# Altium integrated library usefully_Library.IntLib: 62 symbols
Pins are listed as number, name and electrical type; pins without a type are passive.

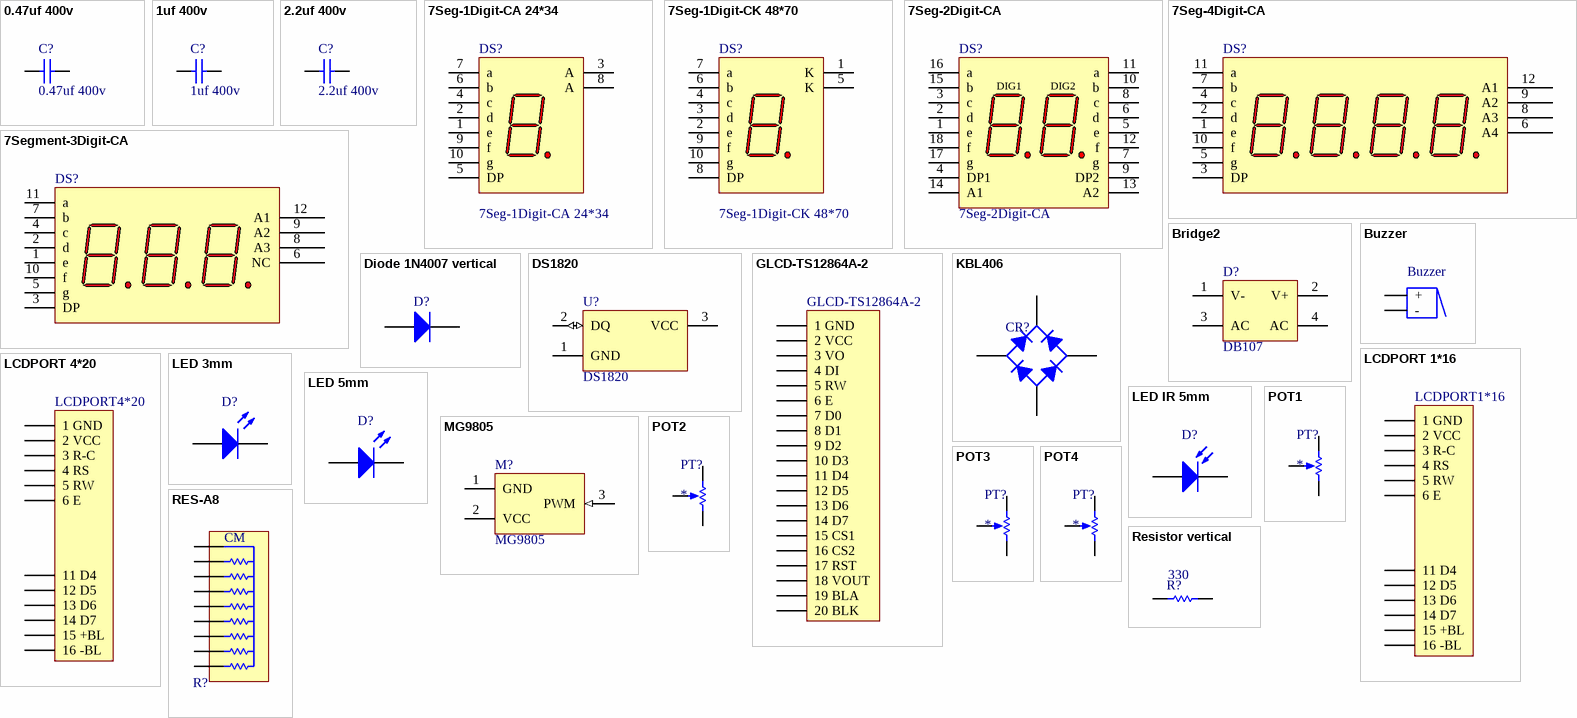
[diagram p0: symbols 0.47uf 400v to Resistor vertical]

## 0.47uf 400v
designator C?
Capacitor 17*6mm; Designer: Seyed Mohsen Ghasemain; Value: 0.47uF; ComponentLinkURL: www.picpars.com
footprint 0.47uf 400v (17*6mm)
pins: 1, 2

## 1uf 400v
designator C?
Capacitor 24*9mm; Designer: Seyed Mohsen Ghasemain; Value: 1uF; ComponentLinkURL: www.picpars.com
footprint 1uf 400v (24*9mm)
pins: 1, 2

## 2.2uf 400v
designator C?
Capacitor 28*11mm; Designer: Seyed Mohsen Ghasemain; Value: 2.2uF; ComponentLinkURL: www.picpars.com
footprint 2.2uf 400v (28*6mm)
pins: 1, 2

## 7Seg-1Digit-CA 24*34
designator DS?
24*34 7-Segment CA; Publisher: Seyed Mohsen Ghasemian; ComponentLink1Description: picpars.com; ComponentLink1URL: http://www.picpars.com
footprint 7segCA 24*34 (7seg-CA; 10 Leads; 24*34mm)
pins: 1 e "Digit 1 e Cathode", 2 d "Digit 1 d Cathode", 3 A "Digit 1 Common Anode", 4 c "Digit 1 c Cathode", 5 DP "Digit 1 DP Cathode", 6 b "Digit 1 b Cathode", 7 a "Digit 1 a Cathode", 8 A "Digit 1 Common Anode", 9 f "Digit 1 f Cathode", 10 g "Digit 1 g Cathode"

## 7Seg-1Digit-CK 48*70
designator DS?
48*70 7-Segment CK; Publisher: Seyed Mohsen Ghasemian; ComponentLink1Description: picpars.com; ComponentLink1URL: http://www.picpars.com
footprint 7segCK 48*70 (7seg-CK; 10 Leads; 48*70mm)
pins: 1 K "Digit 1 Common Cathode", 2 e "Digit 1 e Cathode", 3 d "Digit 1 d Cathode", 4 c "Digit 1 c Cathode", 5 K "Digit 1 Common Cathode", 6 b "Digit 1 b Cathode", 7 a "Digit 1 a Cathode", 8 DP "Digit 1 DP Cathode", 9 f "Digit 1 f Cathode", 10 g "Digit 1 g Cathode"

## 7Seg-2Digit-CA
designator DS?
7-Segment Display: CA; Publisher: Seyed Mohsen Ghasemian; ComponentLink1Description: picpars.com; ComponentLink1URL: http://www.picpars.com
footprint 7segCA-2 (7seg-CA; 18 Leads)
pins: 1 e "Digit 1 e Cathode", 2 d "Digit 1 d Cathode", 3 c "Digit 1 c Cathode", 4 DP1 "Digit 1 DP Cathode", 5 e "Digit 2 e Cathode", 6 d "Digit 2 d Cathode", 7 g "Digit 2 g Cathode", 8 c "Digit 2 c Cathode", 9 DP2 "Digit 2 DP Cathode", 10 b "Digit 2 b Cathode", 11 a "Digit 2 a Cathode", 12 f "Digit 2 f Cathode", 13 A2 "Digit 2  Common Anode", 14 A1 "Digit 1 Common Anode", 15 b "Digit 1 b Cathode", 16 a "Digit 1 a Cathode", 17 g "Digit 1 g Cathode", 18 f "Digit 1 f Cathode"
text: DIG1; DIG2

## 7Seg-4Digit-CA
designator DS?, comment 7Segment-4Digit-CA  (value not drawn)
7-Segment Display: CA; Colour: Read; Designer: Seyed Mohsen Ghasemain; Published: 07/31/2012; Publisher: www.picpars.com; ComponentLink1URL: http://www.picpars.com/
footprint 7segCA (7seg-CA; 12 Leads)
pins: 1 e "Cathode", 2 d "Cathode", 3 DP "Cathode", 4 c "Cathode", 5 g "Cathode", 6 A4, 7 b "Cathode", 8 A3, 9 A2, 10 f "Cathode", 11 a "Cathode", 12 A1

## 7Segment-3Digit-CA
designator DS?  (value not drawn)
Colour: Read; Designer: Seyed Mohsen Ghasemain; Published: 01/04/2013; Publisher: www.picpars.com; ComponentLink1URL: http://www.picpars.com/
footprint 7segCA-3 (7seg-CA; 12 Leads)
pins: 1 e "Cathode", 2 d "Cathode", 3 DP "Cathode", 4 c "Cathode", 5 g "Cathode", 6 NC, 7 b "Cathode", 8 A3, 9 A2, 10 f "Cathode", 11 a "Cathode", 12 A1

## Bridge2
designator D?, comment DB107
Diode Bridge; Designer: Seyed Mohsen ghasemian; WEB: www.picpars.com
footprint DB107
pins: 1 V-, 2 V+, 3 AC, 4 AC

## Buzzer
designator Buzzer  (value not drawn)
Designer: Seyed Mohsen Ghasemain; ComponentLinkURL: www.picpars.com
footprint BUZZER
pins: 1 +, 2 -

## Diode 1N4007 vertical
designator D?  (value not drawn)
1 Amp General Purpose Rectifier; Publisher: seyed mohsen ghasemian
footprint D 50mm (50mm Pin Spacing)
pins: 1 A, 2 K

## DS1820
designator U?
1-Wire Digital Thermometer; ComponentAvailability: Obsolete; Published: 13-Oct-2000; LatestRevisionDate: 17-Jul-2002; LatestRevisionNote: Re-released for DXP Platform.; DatasheetVersion: 5-Mar-1998; PackageVersion: 1999; PackageReference: PR35; Publisher: Altium Limited; PackageDescription: TO, Flat Index; 3 In-Line, Axial Leads; Body Dia. 4.6mm; Leads 0.56 x 0.51 mm (max); ComponentLink1Description: Manufacturer Link; ComponentLink1URL: http://www.maxim-ic.com/; ComponentLink2Description: Datasheet; ComponentLink2URL: http://pdfserv.maxim-ic.com/en/ds/DS1820-DS1820S.pdf; ComponentLink3Description: Discontinuation Notice; ComponentLink3URL: http://www.maxim-ic.com/qa/pdfs/non-obsolescence-letter.pdf
footprint DS1820
pins: 1 GND (power), 2 DQ (io), 3 VCC (power)

## GLCD-TS12864A-2
designator GLCD-TS12864A-2, comment GLCD  (value not drawn)
Graphic LCD 128*64px; Designer: Seyed Mohsen Ghasemain; ComponentLinkURL: www.picpars.com
footprint HDR1X20 (Connector; Header; 20 Position)
pins: 1 1 GND, 2 2 VCC, 3 3 VO, 4 4 DI, 5 5 RW, 6 6 E, 7 7 D0, 8 8 D1, 9 9 D2, 10 10 D3, 11 11 D4, 12 12 D5, 13 13 D6, 14 14 D7, 15 15 CS1, 16 16 CS2, 17 17 RST, 18 18 VOUT, 19 19 BLA, 20 20 BLK

## KBL406
designator CR?, comment 4 Amp 600v  (value not drawn)
E-mail: picpars@gmail.com; Publisher: Seyed mohsen ghasemian; WEB: www.picpars.com
footprint KBL4 (6mm; 19mm)
pins: 1 K, 2 C, 3 C, 4 A

## LCDPORT 1*16
designator LCDPORT1*16, comment LCDPORT1*16  (value not drawn)
LCDPORT 1*16; 80mm*36mm; Designer: Seyed Mohsen Ghasemain; ComponentLinkURL: www.picpars.com
footprint HDR1X16 (Connector; Header; 16 Position)
pins: 1 1 GND, 2 2 VCC, 3 3 R-C, 4 4 RS, 5 5 RW, 6 6 E, 11 11 D4, 12 12 D5, 13 13 D6, 14 14 D7, 15 15 +BL, 16 16 -BL

## LCDPORT 4*20
designator LCDPORT4*20, comment LCDPORT4*20  (value not drawn)
LCDPORT 4*20; 98mm*60mm; Designer: Seyed Mohsen Ghasemain; ComponentLinkURL: www.picpars.com
footprint HDR4X20 (LCD; Connector; Header; 16 Position)
pins: 1 1 GND, 2 2 VCC, 3 3 R-C, 4 4 RS, 5 5 RW, 6 6 E, 11 11 D4, 12 12 D5, 13 13 D6, 14 14 D7, 15 15 +BL, 16 16 -BL

## LED 3mm
designator D?  (value not drawn)
Typical LED; Designer: Seyed Mohsen Ghasemian; Published: 02/04/2012; PackageReference: LED; Publisher: www.picpars.com; PackageDescription: LED; 2 Leads
footprint LED-3mm (LED; 2 Leads)
pins: 1 A, 2 K

## LED 5mm
designator D?  (value not drawn)
Typical LED; Designer: Seyed Mohsen Ghasemian; Published: 07/31/2012; PackageReference: LED; Publisher: www.picpars.com; PackageDescription: LED; 2 Leads
footprint LED-1 (LED; 2 Leads)
pins: 1 A, 2 K

## LED IR 5mm
designator D?  (value not drawn)
Typical LED; Designer: Seyed Mohsen Ghasemian; Published: 07/31/2012; PackageReference: LED; Publisher: www.picpars.com; PackageDescription: LED; 2 Leads
footprint LED-1 (LED; 2 Leads)
pins: 1 A, 2 K

## MG9805
designator M?
Servo motor; ComponentAvailability: Obsolete; Published: 13-Oct-2000; LatestRevisionDate: 17-Jul-2002; LatestRevisionNote: Re-released for DXP Platform.; DatasheetVersion: 5-Mar-1998; PackageVersion: 1999; PackageReference: PR35; Publisher: Altium Limited; PackageDescription: TO, Flat Index; 3 In-Line, Axial Leads; Body Dia. 4.6mm; Leads 0.56 x 0.51 mm (max); ComponentLink1Description: Manufacturer Link; ComponentLink1URL: http://www.maxim-ic.com/; ComponentLink2Description: Datasheet; ComponentLink2URL: http://pdfserv.maxim-ic.com/en/ds/DS1820-DS1820S.pdf; ComponentLink3Description: Discontinuation Notice; ComponentLink3URL: http://www.maxim-ic.com/qa/pdfs/non-obsolescence-letter.pdf
footprint MG9805 (Connector; Header; 3 Position)
pins: 1 GND (power), 2 VCC (power), 3 PWM (in)

## POT1
designator PT?
Variable Potentiometer standing; Designer: Seyed Mohsen Ghasemian; WEB: www.picpars.com
footprint POT1
pins: 1 TOP, 2 BOT, 3 TAP

## POT2
designator PT?
Variable Potentiometer standing; Designer: Seyed Mohsen Ghasemian; WEB: www.picpars.com
footprint POT2
pins: 1 TOP, 2 BOT, 3 TAP

## POT3
designator PT?
Variable Potentiometer top adjust; Designer: Seyed Mohsen Ghasemian; WEB: www.picpars.com
footprint POT3
pins: 1 TOP, 2 BOT, 3 TAP

## POT4
designator PT?
Variable Potentiometer top adjust; Designer: Seyed Mohsen Ghasemian; WEB: www.picpars.com
footprint POT4
pins: 1 TOP, 2 BOT, 3 TAP

## RES-A8
designator R?, comment Resistor Array  (value not drawn)
E-mail: picpars@gmail.com; Publisher: Seyed mohsen ghasemian; WEB: www.picpars.com
footprint Res arrya (Resistor; Array;)
pins: 1 1 CM, 2, 3, 4, 5, 6, 7, 8, 9
text: CM

## Resistor vertical
designator R?  value 330  (hidden comment: Resistor vertical)
Resistor 0.5; Publisher: Seyed mohsen ghasemian; WEB: www.picpars.com
footprint Res50 (50mm Pin Spacing)
pins: 1, 2


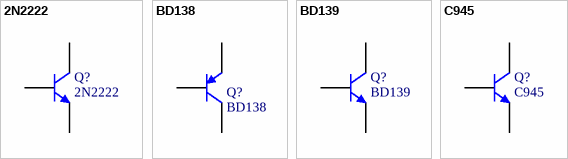
[diagram p1: symbols 2N2222 to C945]

## 2N2222
designator Q?
NPN; E-mail: picpars@gmail.com; De: Seyed Mohsen Ghasemian; web: www.picpars.com
footprint T4-TO92
pins: B, C, E

## BD138
designator Q?
PNP Transistor; E-mail: picpars@gmail.com; De: Seyed Mohsen Ghasemian; web: www.picpars.com
footprint SOT-32
pins: B, C, E

## BD139
designator Q?
NPN Transistor; E-mail: picpars@gmail.com; De: Seyed Mohsen Ghasemian; web: www.picpars.com
footprint SOT-32
pins: B, C, E

## C945
designator Q?
NPN; E-mail: picpars@gmail.com; De: Seyed Mohsen Ghasemian; web: www.picpars.com
footprint T2-TO92
pins: B, C, E


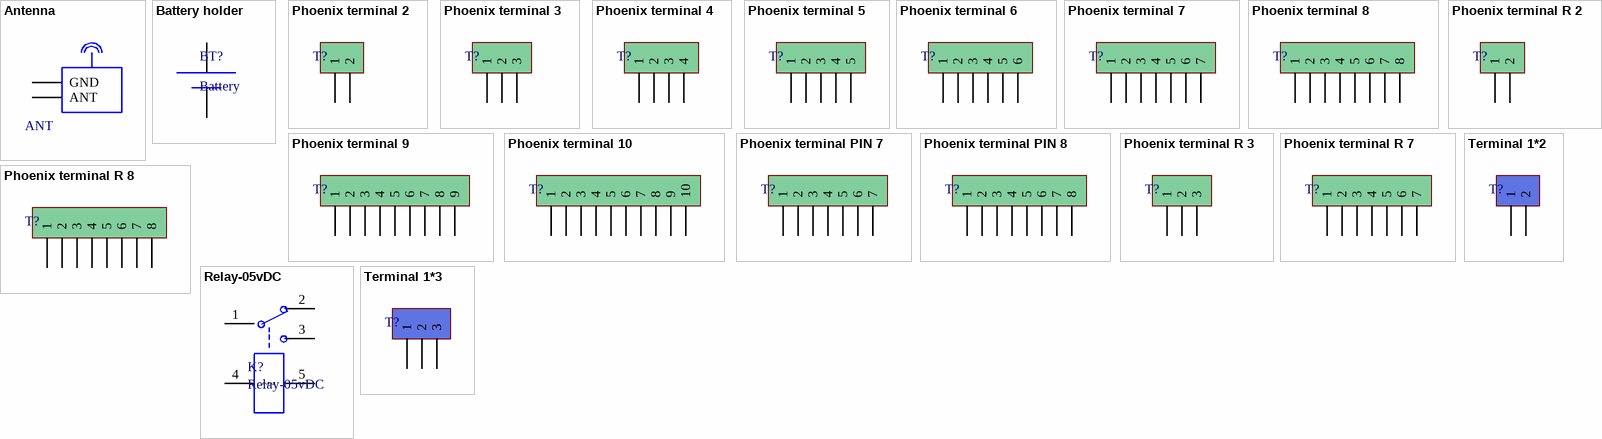
[diagram p2: symbols Antenna to Terminal 1*3]

## Antenna
designator ANT  (value not drawn)
Right RF Antenna; Designer: Seyed Mohsen Ghasemian; E-mail: picpars@gmail.com; ComponentLinkURL: www.picpars.com; Make: 11/22/2013
footprint ANT-R-RF (Antenna; Right; RF;)
pins: 1 GND, 2 ANT

## Battery holder
designator BT?, comment Battery
Battery holder CR2032; Designer: Seyed Mohsen Ghasemian; E-mail: picpars@gmail.com; ComponentLinkURL: www.picpars.com; Make: 02/12/2011
footprint CR2032 (Battery holder)
pins: 0 +, 1 -

## Phoenix terminal 2
designator T?, comment Phoenix terminal  (value not drawn)
Terminal 2 Pin; Designer: Seyed Mohsen Ghasemain; E-mail: picpars@gmail.com; ComponentLinkURL: www.picpars.com
footprint phoenix terminal 2 (2 terminals)
pins: 1, 2

## Phoenix terminal 3
designator T?, comment Phoenix terminal  (value not drawn)
Terminal 3 Pin; Designer: Seyed Mohsen Ghasemain; E-mail: picpars@gmail.com; ComponentLinkURL: www.picpars.com
footprint phoenix terminal 3 (3 terminals)
pins: 1, 2, 3

## Phoenix terminal 4
designator T?, comment Phoenix terminal  (value not drawn)
Terminal 4 Pin; Designer: Seyed Mohsen Ghasemain; E-mail: picpars@gmail.com; ComponentLinkURL: www.picpars.com
footprint phoenix terminal 4 (4 terminals)
pins: 1, 2, 3, 4

## Phoenix terminal 5
designator T?, comment Phoenix terminal  (value not drawn)
Terminal 5 Pin; Designer: Seyed Mohsen Ghasemain; E-mail: picpars@gmail.com; ComponentLinkURL: www.picpars.com
footprint phoenix terminal 5 (5 terminals)
pins: 1, 2, 3, 4, 5

## Phoenix terminal 6
designator T?, comment Phoenix terminal  (value not drawn)
Terminal 6 Pin; Designer: Seyed Mohsen Ghasemain; E-mail: picpars@gmail.com; ComponentLinkURL: www.picpars.com
footprint phoenix terminal 6 (6 terminals)
pins: 1, 2, 3, 4, 5, 6

## Phoenix terminal 7
designator T?, comment Phoenix terminal  (value not drawn)
Terminal 7 Pin; Designer: Seyed Mohsen Ghasemain; E-mail: picpars@gmail.com; ComponentLinkURL: www.picpars.com
footprint phoenix terminal 7 (7 terminals)
pins: 1, 2, 3, 4, 5, 6, 7

## Phoenix terminal 8
designator T?, comment Phoenix terminal  (value not drawn)
Terminal 8 Pin; Designer: Seyed Mohsen Ghasemain; E-mail: picpars@gmail.com; ComponentLinkURL: www.picpars.com
footprint phoenix terminal 8 (8 terminals)
pins: 1, 2, 3, 4, 5, 6, 7, 8

## Phoenix terminal 9
designator T?, comment Phoenix terminal  (value not drawn)
Terminal 9 Pin; Designer: Seyed Mohsen Ghasemain; E-mail: picpars@gmail.com; ComponentLinkURL: www.picpars.com
footprint phoenix terminal 9 (9 terminals)
pins: 1, 2, 3, 4, 5, 6, 7, 8, 9

## Phoenix terminal 10
designator T?, comment Phoenix terminal  (value not drawn)
Terminal 10 Pin; Designer: Seyed Mohsen Ghasemain; E-mail: picpars@gmail.com; ComponentLinkURL: www.picpars.com
footprint phoenix terminal 10 (10 terminals)
pins: 1, 2, 3, 4, 5, 6, 7, 8, 9, 10

## Phoenix terminal PIN 7
designator T?, comment Phoenix terminal  (value not drawn)
Terminal 7 Pin; Designer: Seyed Mohsen Ghasemain; E-mail: picpars@gmail.com; ComponentLinkURL: www.picpars.com
footprint phoenix terminal PIN 7 (7 terminals)
pins: 1, 2, 3, 4, 5, 6, 7

## Phoenix terminal PIN 8
designator T?, comment Phoenix terminal  (value not drawn)
Terminal 8 Pin; Designer: Seyed Mohsen Ghasemain; E-mail: picpars@gmail.com; ComponentLinkURL: www.picpars.com
footprint phoenix terminal PIN 8 (8 terminals)
pins: 1, 2, 3, 4, 5, 6, 7, 8

## Phoenix terminal R 2
designator T?, comment Phoenix terminal  (value not drawn)
Right Terminal 2 Pin; Designer: Seyed Mohsen Ghasemain; E-mail: picpars@gmail.com; ComponentLinkURL: www.picpars.com
footprint phoenix terminal R 2 (2 Right terminals)
pins: 1, 2

## Phoenix terminal R 3
designator T?, comment Phoenix terminal  (value not drawn)
Right Terminal 3 Pin; Designer: Seyed Mohsen Ghasemain; E-mail: picpars@gmail.com; ComponentLinkURL: www.picpars.com
footprint phoenix terminal R 3 (3 Right terminals)
pins: 1, 2, 3

## Phoenix terminal R 7
designator T?, comment Phoenix terminal  (value not drawn)
Right Terminal 7 Pin; Designer: Seyed Mohsen Ghasemain; E-mail: picpars@gmail.com; ComponentLinkURL: www.picpars.com
footprint phoenix terminal R 7 (7 Right terminals)
pins: 1, 2, 3, 4, 5, 6, 7

## Phoenix terminal R 8
designator T?, comment Phoenix terminal  (value not drawn)
Right Terminal 8 Pin; Designer: Seyed Mohsen Ghasemain; E-mail: picpars@gmail.com; ComponentLinkURL: www.picpars.com
footprint phoenix terminal R 8 (8 Right terminals)
pins: 1, 2, 3, 4, 5, 6, 7, 8

## Relay-05vDC
designator K?
Relay-05vDC-240AC 5A; Designer: Seyed Mohsen Ghasemain; ComponentLinkURL: www.picpars.com
footprint Relays
pins: 1 COM, 2 NC, 3 NO, 4 ~, 5 ~

## Terminal 1*2
designator T?, comment Terminal  (value not drawn)
Terminal 2 Pin 250VAC 16A; Designer: Seyed Mohsen Ghasemain; E-mail: picpars@gmail.com; ComponentLinkURL: www.picpars.com
footprint Terminal 1*2
pins: 1, 2

## Terminal 1*3
designator T?, comment Terminal  (value not drawn)
Terminal 3 Pin 250VAC 16A; Designer: Seyed Mohsen Ghasemain; E-mail: picpars@gmail.com; ComponentLinkURL: www.picpars.com
footprint Terminal 1*3
pins: 1, 2, 3


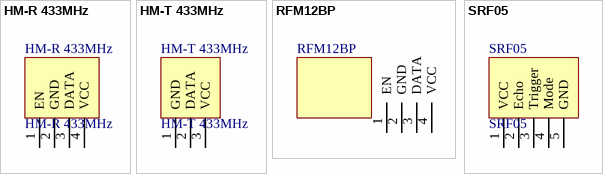
[diagram p3: symbols HM-R 433MHz to SRF05]

## HM-R 433MHz
designator HM-R 433MHz
Modules RF 433MHz; Designer: Seyed Mohsen ghasemian; WEB: www.picpars.com
footprint HM-R (Connector; Header; 4 Position)
pins: 1 EN, 2 GND, 3 DATA, 4 VCC

## HM-T 433MHz
designator HM-T 433MHz
Modules RF 433MHz; Designer: Seyed Mohsen ghasemian; WEB: www.picpars.com
footprint HM-T (Connector; Header; 3 Position)
pins: 1 GND, 2 DATA, 3 VCC

## RFM12BP
designator RFM12BP  (value not drawn)
Designer: Seyed Mohsen ghasemian; WEB: www.picpars.com
footprint RFM12BP
pins: 1 EN, 2 GND, 3 DATA, 4 VCC

## SRF05
designator SRF05
SRF05 - Ultra-Sonic Ranger; Designer: Seyed Mohsen ghasemian; WEB: www.picpars.com
footprint SRF05 (Connector; Header; 5 Position)
pins: 1 VCC, 2 Echo, 3 Trigger, 4 Mode, 5 GND


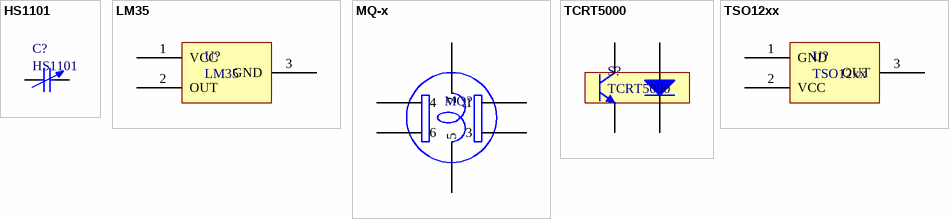
[diagram p4: symbols HS1101 to TSO12xx]

## HS1101
designator C?
RELATIVE HUMIDITY SENSOR; Designer: Seyed Mohsen Ghasemain; E-mail: picpars@gmail.com; ComponentLinkURL: www.picpars.com
footprint HS1101 (HUMIDITY SENSOR)
pins: 1, 2

## LM35
designator U?
LM35 Temperature Sensor; Designer: Seyed Mohsen Ghasemain; E-mail: picpars@gmail.com; ComponentLinkURL: www.picpars.com
footprint LM35-TO92
pins: 1 VCC, 2 OUT, 3 GND

## MQ-x
designator MQ?  (value not drawn)
Gas Sensor; Designer: Seyed Mohsen Ghasemain; E-mail: picpars@gmail.com; ComponentLinkURL: www.picpars.com
footprint MQ-x (Gas sensor)
pins: 1, 2, 3, 4, 5, 6

## TCRT5000
designator S?
IR LED; T&R; Designer: Seyed Mohsen Ghasemain; ComponentLinkURL: www.picpars.com
footprint TCRT5000 (IR Sensor 2LEDs)
pins: A, C, E, K

## TSO12xx
designator U?
Reciver Remot Control (IR) 30-56KHz; Designer: Seyed Mohsen Ghasemain; ComponentLinkURL: www.picpars.com
footprint IR10
footprint IR10
pins: 1 GND, 2 VCC, 3 OUT


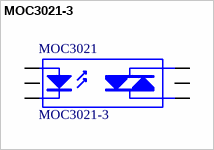
[diagram p5: symbol MOC3021-3]

## MOC3021-3
designator MOC3021
Opto-Triac; Designer: Seyed Mohsen Ghasemian; E-mail: picpars@gmail.com; Published: 17-11-2011; LatestRevisionDate: 17-11-2011; Publisher: www.picpars.com; WEB: www.picpars.com
footprint DIP-6 (DIP; 6 Leads; Row Spacing 7.62 mm; Pitch 2.54 mm)
footprint DIP-6 (DIP; 6 Leads; Row Spacing 7.62 mm; Pitch 2.54 mm)
pins: 1 A, 2 K, 3 NC, 4 A/K, 5 NC, 6 A/K


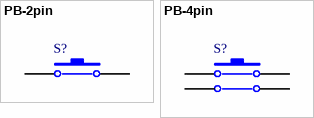
[diagram p6: symbols PB-2pin to PB-4pin]

## PB-2pin
designator S?  (value not drawn)
Switch; E-mail: picpars@gmail.com; Designer: Seyed Mohsen Ghasemian; Publisher: www.picpars.com; WEB: www.picpars.com
footprint PB-2pin (Switch)
pins: 1, 2

## PB-4pin
designator S?  (value not drawn)
Switch; E-mail: picpars@gmail.com; Designer: Seyed Mohsen Ghasemian; Publisher: www.picpars.com; WEB: www.picpars.com
footprint PB-4pin (Switch)
pins: 1, 2, 3, 4